# EAGLE library part ATTINY85 (library IC & Transistor)
8-bit Microcontroller with In-System Programmable Flash
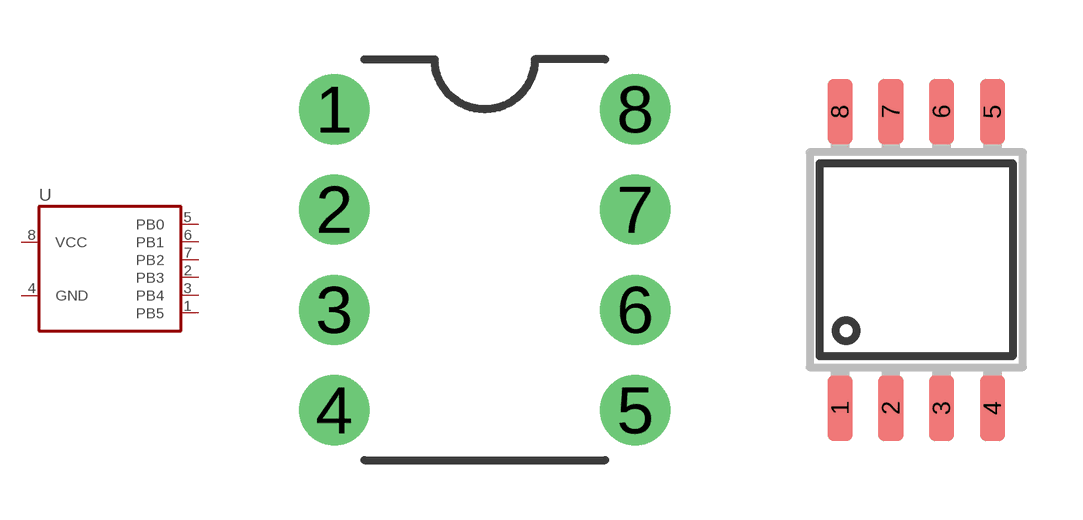
[diagram p22: symbol with the pads of DIP-8; footprints DIP-8, SOIC-08W]

Designator prefix U

## ATTINY85_(DIP) (DESC: ATTINY85-20PU; MF: ATMEL; MPN: ATTINY85-20PU)  [DIP-8]
1  PB5
2  PB3
3  PB4
4  GND
5  PB0
6  PB1
7  PB2
8  VCC

## ATTINY85_(SOIC) (CYTRON-PC: S-IC-ATTINY85-WSO8; DESC: S ATTINY85-20SU WSOIC8; MF: ATMEL; MPN: ATTINY85-20SU)  [SOIC-08W]
Pads as for DIP-8

## Footprint DIP-8 (pad centres in mm)
DIP-8
drill 1.016 pad 1.778: 1 -3.81,3.81; 2 -3.81,1.27; 3 -3.81,-1.27; 4 -3.81,-3.81; 5 3.81,-3.81; 6 3.81,-1.27; 7 3.81,1.27; 8 3.81,3.81

## Footprint SOIC-08W (pad centres in mm)
Small Outline Integrated Circuit (SOIC) Wide (EIAJ) SOIC Package Lead Pitch: 1.27mm Modified by: Wai Weng 1. Rotate the orientation.
smd 0.635 x 1.651: 1 -1.905,-3.708; 2 -0.635,-3.708; 3 0.635,-3.708; 4 1.905,-3.708; 5 1.905,3.708; 6 0.635,3.708; 7 -0.635,3.708; 8 -1.905,3.708